# Altium schematic symbol library Step Up.SCHLIB: 1 symbol
Pins are listed as number, name and electrical type; pins without a type are passive.

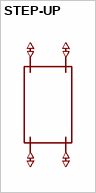
[diagram p0: symbol STEP-UP]

## STEP-UP
designator ?
GateName_1: G$1; SymbolName_1: STEP-UP; LibraryName: Step Up; DeviceSetName: STEP-UP; Package: STEP-UP
footprint STEP-UP
pins: GND_IN (io), GND_OUT (io), VIN (io), VOUT OUT (io)